# Altium footprint library 18650 battery.PCBLIB: 111 footprints (part 5 of 7)
Each footprint in its own frame and in the unit in brackets; x right, y up, seen from the top. Pads: shape width x height; smd on the part's side, far side on the other; paste and mask are expansions set on the pad; w line width, h text height; cw(c..) or ccw(c..) is an arc to the next point about the centre after c.
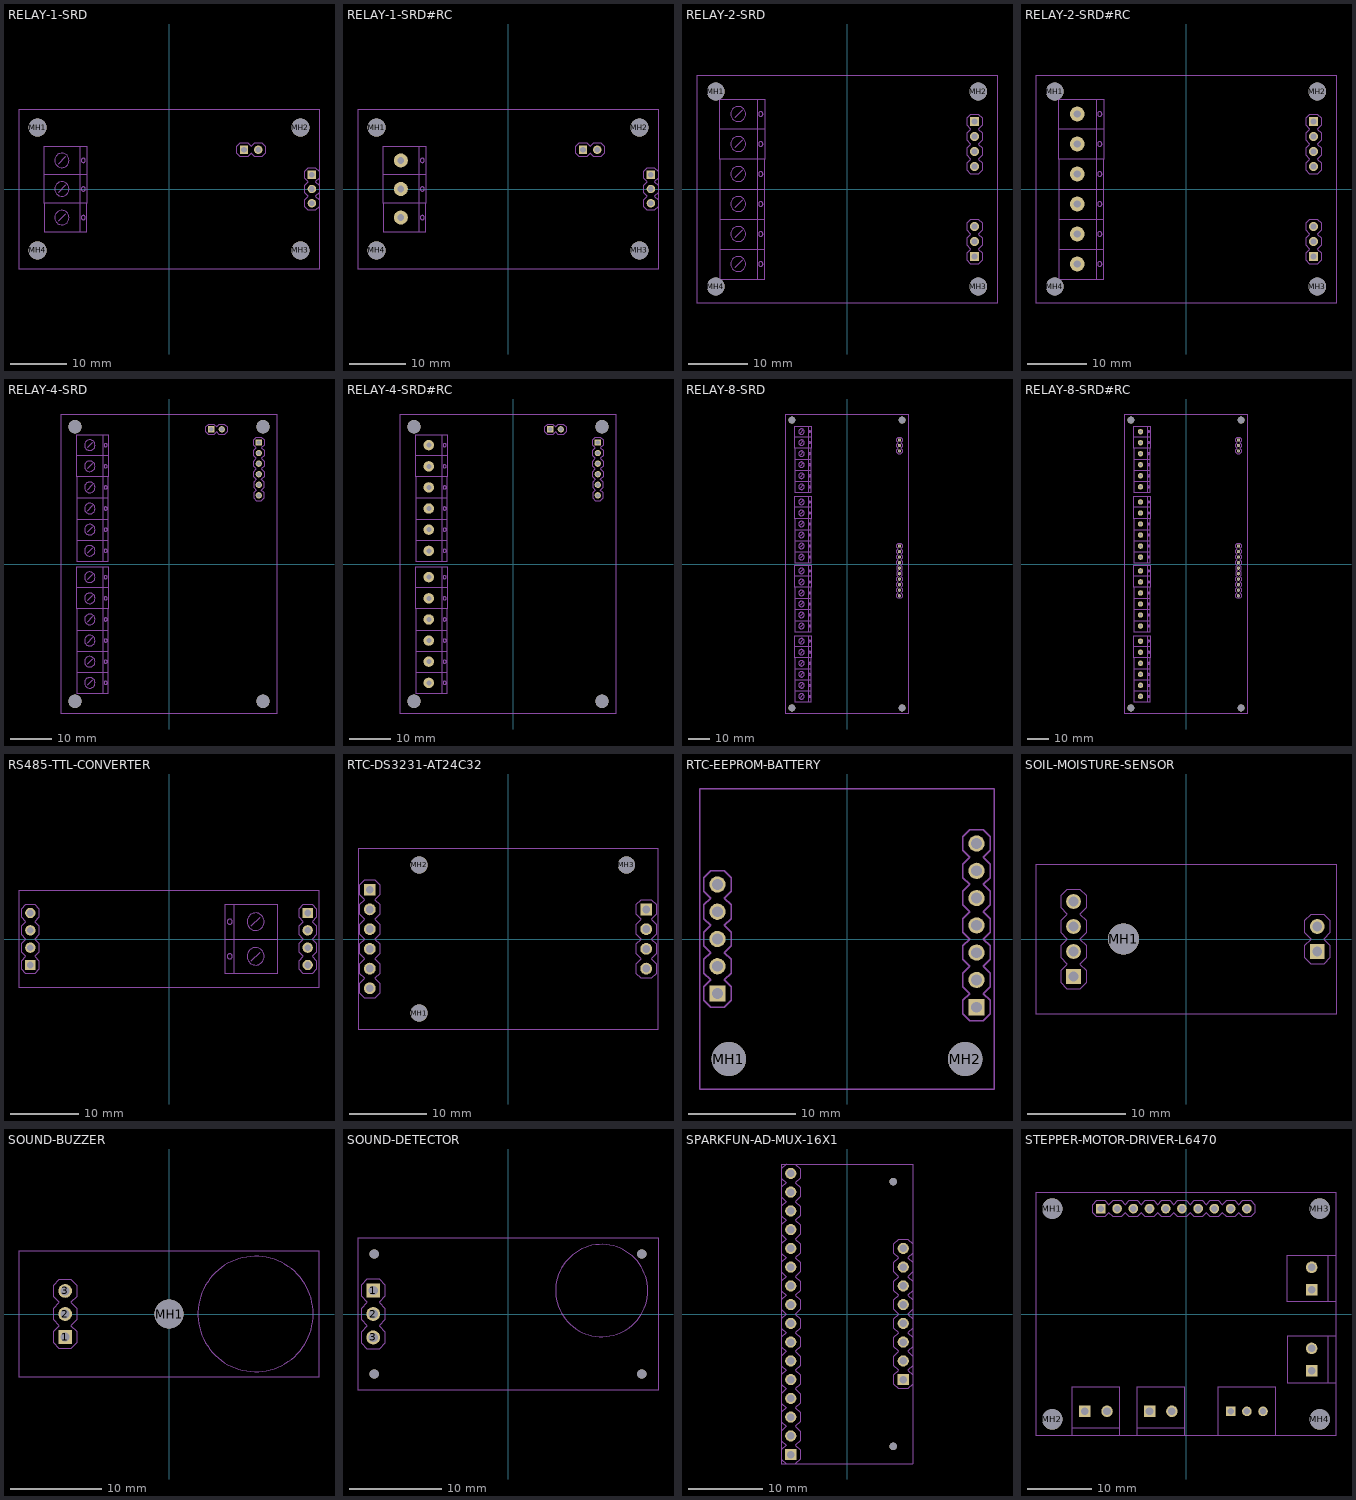
[diagram p4: the footprints below, top view; thin cyan lines are the x and y axes]

## RELAY-1-SRD [mil]
pads (9):
  rect 59.37x59.37 / inner round 54.85 / far side rect 59.37x59.37 hole 39.37: J1.1(1000,100) J2.1(525,275)
  round 59.37 hole 39.37: J1.2(1000,0) J1.3(1000,-100) J2.2(625,275)
  round 125.98 hole 125.98 unplated: MH1(-920,430) MH2(920,430) MH3(920,-430) MH4(-920,-430)
tPlace:
  circle w5: c-600,200 r15
  circle w5: c-600,0 r15
  circle w5: c-600,-200 r15
  circle w5: c-750,0 r50
  circle w5: c-750,200 r50
  circle w5: c-750,-200 r50
  lines w5: -775,-225 -725,-175 ; -775,-25 -725,25 ; -775,175 -725,225 ; 1050,-125 1025,-150 975,-150 950,-125 950,-75 975,-50 950,-25 950,25 975,50 950,75 950,125 975,150 1025,150 1050,125 ; 1050,-75 1025,-50 1050,-25 ; 1050,25 1025,50 1050,75 ; -875,-100 -575,-100 ; -875,-100 -875,100 ; -875,-100 -875,-300 -625,-300 ; -875,100 -875,300 -625,300 ; -875,100 -575,100 ; -625,-300 -575,-300 -575,-100 ; -625,-300 -625,300 ; -625,300 -575,300 -575,100 ; -575,-100 -575,100 ; -1050,-560 1050,-560 1050,560 -1050,560 -1050,-560 ; 475,250 500,225 550,225 575,250 600,225 650,225 675,250 675,300 650,325 600,325 575,300 550,325 500,325 475,300 475,250

## RELAY-1-SRD#RC [mil]
pads (12):
  rect 59.37x59.37 / inner round 54.85 / far side rect 59.37x59.37 hole 39.37: J1.1(1000,100) J2.1(525,275)
  round 59.37 hole 39.37: J1.2(1000,0) J1.3(1000,-100) J2.2(625,275)
  round 125.98 hole 125.98 unplated: MH1(-920,430) MH2(920,430) MH3(920,-430) MH4(-920,-430)
  round 98.43 hole 47.24: P1.1(-750,200) P1.2(-750,0) P1.3(-750,-200)
tPlace:
  circle w5: c-600,200 r15
  circle w5: c-600,0 r15
  circle w5: c-600,-200 r15
  lines w5: 1050,-125 1025,-150 975,-150 950,-125 950,-75 975,-50 950,-25 950,25 975,50 950,75 950,125 975,150 1025,150 1050,125 ; 1050,-75 1025,-50 1050,-25 ; 1050,25 1025,50 1050,75 ; -875,-100 -575,-100 ; -875,-100 -875,100 ; -875,-100 -875,-300 -625,-300 ; -875,100 -875,300 -625,300 ; -875,100 -575,100 ; -625,-300 -575,-300 -575,-100 ; -625,-300 -625,300 ; -625,300 -575,300 -575,100 ; -575,-100 -575,100 ; -1050,-560 1050,-560 1050,560 -1050,560 -1050,-560 ; 475,250 500,225 550,225 575,250 600,225 650,225 675,250 675,300 650,325 600,325 575,300 550,325 500,325 475,300 475,250

## RELAY-2-SRD [mm]
pads (11):
  rect 1.508x1.508 / inner round 1.393 / far side rect 1.508x1.508 hole 1: J1.1(21.59,11.43) J2.1(21.59,-11.43)
  round 1.508 hole 1: J1.2(21.59,8.89) J1.3(21.59,6.35) J1.4(21.59,3.81) J2.2(21.59,-8.89) J2.3(21.59,-6.35)
  round 3 hole 3 unplated: MH1(-22.225,16.51) MH2(22.225,16.51) MH3(22.225,-16.51) MH4(-22.225,-16.51)
tPlace:
  circle w0.127: c-14.605,12.7 r0.381
  circle w0.127: c-14.605,7.62 r0.381
  circle w0.127: c-14.605,2.54 r0.381
  circle w0.127: c-14.605,-2.54 r0.381
  circle w0.127: c-14.605,-7.62 r0.381
  circle w0.127: c-14.605,-12.7 r0.381
  circle w0.127: c-18.415,7.62 r1.27
  circle w0.127: c-18.415,12.7 r1.27
  circle w0.127: c-18.415,2.54 r1.27
  circle w0.127: c-18.415,-2.54 r1.27
  circle w0.127: c-18.415,-7.62 r1.27
  circle w0.127: c-18.415,-12.7 r1.27
  lines w0.127: -19.05,-13.335 -17.78,-12.065 ; -19.05,-8.255 -17.78,-6.985 ; -19.05,-3.175 -17.78,-1.905 ; -19.05,1.905 -17.78,3.175 ; -19.05,6.985 -17.78,8.255 ; -19.05,12.065 -17.78,13.335 ; -21.59,-10.16 -21.59,-5.08 ; -21.59,-10.16 -13.97,-10.16 ; -21.59,-10.16 -21.59,-15.24 -15.24,-15.24 ; -21.59,-5.08 -21.59,0 ; -21.59,-5.08 -13.97,-5.08 ; -21.59,0 -21.59,5.08 ; -21.59,0 -13.97,0 ; -21.59,5.08 -13.97,5.08 ; -21.59,5.08 -21.59,10.16 ; -21.59,10.16 -21.59,15.24 -15.24,15.24 ; -21.59,10.16 -13.97,10.16 ; -15.24,-15.24 -13.97,-15.24 -13.97,-10.16 ; -15.24,-15.24 -15.24,15.24 ; -15.24,15.24 -13.97,15.24 -13.97,10.16 ; -13.97,-10.16 -13.97,-5.08 ; -13.97,-5.08 -13.97,0 ; -13.97,0 -13.97,5.08 ; -13.97,5.08 -13.97,10.16 ; -25.4,-19.304 25.4,-19.304 25.4,19.304 -25.4,19.304 -25.4,-19.304 ; 20.32,-12.065 20.955,-12.7 22.225,-12.7 22.86,-12.065 22.86,-10.795 22.225,-10.16 22.86,-9.525 22.86,-8.255 22.225,-7.62 22.86,-6.985 22.86,-5.715 22.225,-5.08 20.955,-5.08 20.32,-5.715 20.32,-6.985 20.955,-7.62 20.32,-8.255 20.32,-9.525 20.955,-10.16 20.32,-10.795 20.32,-12.065 ; 20.32,3.175 20.955,2.54 22.225,2.54 22.86,3.175 22.86,4.445 22.225,5.08 22.86,5.715 22.86,6.985 22.225,7.62 22.86,8.255 22.86,9.525 22.225,10.16 22.86,10.795 22.86,12.065 22.225,12.7 20.955,12.7 20.32,12.065 20.32,10.795 20.955,10.16 20.32,9.525 20.32,8.255 20.955,7.62 20.32,6.985 20.32,5.715 20.955,5.08 20.32,4.445 20.32,3.175

## RELAY-2-SRD#RC [mm]
pads (17):
  rect 1.508x1.508 / inner round 1.393 / far side rect 1.508x1.508 hole 1: J1.1(21.59,11.43) J2.1(21.59,-11.43)
  round 1.508 hole 1: J1.2(21.59,8.89) J1.3(21.59,6.35) J1.4(21.59,3.81) J2.2(21.59,-8.89) J2.3(21.59,-6.35)
  round 3 hole 3 unplated: MH1(-22.225,16.51) MH2(22.225,16.51) MH3(22.225,-16.51) MH4(-22.225,-16.51)
  round 2.5 hole 1.2: P1.1(-18.415,12.7) P1.2(-18.415,7.62) P1.3(-18.415,2.54) P1.4(-18.415,-2.54) P1.5(-18.415,-7.62) P1.6(-18.415,-12.7)
tPlace:
  circle w0.127: c-14.605,12.7 r0.381
  circle w0.127: c-14.605,7.62 r0.381
  circle w0.127: c-14.605,2.54 r0.381
  circle w0.127: c-14.605,-2.54 r0.381
  circle w0.127: c-14.605,-7.62 r0.381
  circle w0.127: c-14.605,-12.7 r0.381
  lines w0.127: -21.59,-10.16 -21.59,-5.08 ; -21.59,-10.16 -13.97,-10.16 ; -21.59,-10.16 -21.59,-15.24 -15.24,-15.24 ; -21.59,-5.08 -21.59,0 ; -21.59,-5.08 -13.97,-5.08 ; -21.59,0 -21.59,5.08 ; -21.59,0 -13.97,0 ; -21.59,5.08 -13.97,5.08 ; -21.59,5.08 -21.59,10.16 ; -21.59,10.16 -21.59,15.24 -15.24,15.24 ; -21.59,10.16 -13.97,10.16 ; -15.24,-15.24 -13.97,-15.24 -13.97,-10.16 ; -15.24,-15.24 -15.24,15.24 ; -15.24,15.24 -13.97,15.24 -13.97,10.16 ; -13.97,-10.16 -13.97,-5.08 ; -13.97,-5.08 -13.97,0 ; -13.97,0 -13.97,5.08 ; -13.97,5.08 -13.97,10.16 ; -25.4,-19.304 25.4,-19.304 25.4,19.304 -25.4,19.304 -25.4,-19.304 ; 20.32,-12.065 20.955,-12.7 22.225,-12.7 22.86,-12.065 22.86,-10.795 22.225,-10.16 22.86,-9.525 22.86,-8.255 22.225,-7.62 22.86,-6.985 22.86,-5.715 22.225,-5.08 20.955,-5.08 20.32,-5.715 20.32,-6.985 20.955,-7.62 20.32,-8.255 20.32,-9.525 20.955,-10.16 20.32,-10.795 20.32,-12.065 ; 20.32,3.175 20.955,2.54 22.225,2.54 22.86,3.175 22.86,4.445 22.225,5.08 22.86,5.715 22.86,6.985 22.225,7.62 22.86,8.255 22.86,9.525 22.225,10.16 22.86,10.795 22.86,12.065 22.225,12.7 20.955,12.7 20.32,12.065 20.32,10.795 20.955,10.16 20.32,9.525 20.32,8.255 20.955,7.62 20.32,6.985 20.32,5.715 20.955,5.08 20.32,4.445 20.32,3.175

## RELAY-4-SRD [mm]
pads (12):
  rect 1.508x1.508 / inner round 1.393 / far side rect 1.508x1.508 hole 1: J1.1(21.59,29.21) J2.1(10.16,32.385)
  round 1.508 hole 1: J1.2(21.59,26.67) J1.3(21.59,24.13) J1.4(21.59,21.59) J1.5(21.59,19.05) J1.6(21.59,16.51) J2.2(12.7,32.385)
  round 3.2 hole 3.2 unplated: MH1(-22.606,33.02) MH2(22.606,33.02) MH3(22.606,-33.02) MH4(-22.606,-33.02)
tPlace:
  circle w0.127: c-15.24,28.575 r0.381
  circle w0.127: c-15.24,23.495 r0.381
  circle w0.127: c-15.24,18.415 r0.381
  circle w0.127: c-15.24,13.335 r0.381
  circle w0.127: c-15.24,8.255 r0.381
  circle w0.127: c-15.24,3.175 r0.381
  circle w0.127: c-19.05,23.495 r1.27
  circle w0.127: c-19.05,28.575 r1.27
  circle w0.127: c-19.05,18.415 r1.27
  circle w0.127: c-19.05,13.335 r1.27
  circle w0.127: c-19.05,8.255 r1.27
  circle w0.127: c-19.05,3.175 r1.27
  circle w0.127: c-15.24,-3.175 r0.381
  circle w0.127: c-15.24,-8.255 r0.381
  circle w0.127: c-15.24,-13.335 r0.381
  circle w0.127: c-15.24,-18.415 r0.381
  circle w0.127: c-15.24,-23.495 r0.381
  circle w0.127: c-15.24,-28.575 r0.381
  circle w0.127: c-19.05,-8.255 r1.27
  circle w0.127: c-19.05,-3.175 r1.27
  circle w0.127: c-19.05,-13.335 r1.27
  circle w0.127: c-19.05,-18.415 r1.27
  circle w0.127: c-19.05,-23.495 r1.27
  circle w0.127: c-19.05,-28.575 r1.27
  lines w0.127: -19.685,-29.21 -18.415,-27.94 ; -19.685,-24.13 -18.415,-22.86 ; -19.685,-19.05 -18.415,-17.78 ; -19.685,-13.97 -18.415,-12.7 ; -19.685,-8.89 -18.415,-7.62 ; -19.685,-3.81 -18.415,-2.54 ; -19.685,2.54 -18.415,3.81 ; -19.685,7.62 -18.415,8.89 ; -19.685,12.7 -18.415,13.97 ; -19.685,17.78 -18.415,19.05 ; -19.685,22.86 -18.415,24.13 ; -19.685,27.94 -18.415,29.21 ; -22.225,-26.035 -22.225,-20.955 ; -22.225,-26.035 -14.605,-26.035 ; -22.225,-26.035 -22.225,-31.115 -15.875,-31.115 ; -22.225,-20.955 -22.225,-15.875 ; -22.225,-20.955 -14.605,-20.955 ; -22.225,-15.875 -22.225,-10.795 ; -22.225,-15.875 -14.605,-15.875 ; -22.225,-10.795 -14.605,-10.795 ; -22.225,-10.795 -22.225,-5.715 ; -22.225,-5.715 -22.225,-0.635 -15.875,-0.635 ; -22.225,-5.715 -14.605,-5.715 ; -22.225,5.715 -22.225,10.795 ; -22.225,5.715 -14.605,5.715 ; -22.225,5.715 -22.225,0.635 -15.875,0.635 ; -22.225,10.795 -22.225,15.875 ; -22.225,10.795 -14.605,10.795 ; -22.225,15.875 -22.225,20.955 ; -22.225,15.875 -14.605,15.875 ; -22.225,20.955 -14.605,20.955 ; -22.225,20.955 -22.225,26.035 ; -22.225,26.035 -22.225,31.115 -15.875,31.115 ; -22.225,26.035 -14.605,26.035 ; -15.875,-31.115 -14.605,-31.115 -14.605,-26.035 ; -15.875,-31.115 -15.875,-0.635 ; -15.875,-0.635 -14.605,-0.635 -14.605,-5.715 ; -15.875,0.635 -14.605,0.635 -14.605,5.715 ; -15.875,0.635 -15.875,31.115 ; -15.875,31.115 -14.605,31.115 -14.605,26.035 ; -14.605,-26.035 -14.605,-20.955 ; -14.605,-20.955 -14.605,-15.875 ; -14.605,-15.875 -14.605,-10.795 ; -14.605,-10.795 -14.605,-5.715 ; -14.605,5.715 -14.605,10.795 ; -14.605,10.795 -14.605,15.875 ; -14.605,15.875 -14.605,20.955 ; -14.605,20.955 -14.605,26.035 ; -25.908,-36.068 25.908,-36.068 25.908,36.068 -25.908,36.068 -25.908,-36.068 ; 8.89,31.75 9.525,31.115 10.795,31.115 11.43,31.75 12.065,31.115 13.335,31.115 13.97,31.75 13.97,33.02 13.335,33.655 12.065,33.655 11.43,33.02 10.795,33.655 9.525,33.655 8.89,33.02 8.89,31.75 ; 20.32,15.875 20.32,17.145 20.955,17.78 20.32,18.415 20.32,19.685 20.955,20.32 20.32,20.955 20.32,22.225 20.955,22.86 20.32,23.495 20.32,24.765 20.955,25.4 20.32,26.035 20.32,27.305 20.955,27.94 20.32,28.575 20.32,29.845 20.955,30.48 22.225,30.48 22.86,29.845 22.86,28.575 22.225,27.94 22.86,27.305 22.86,26.035 22.225,25.4 22.86,24.765 22.86,23.495 22.225,22.86 22.86,22.225 22.86,20.955 22.225,20.32 22.86,19.685 22.86,18.415 22.225,17.78 22.86,17.145 22.86,15.875 22.225,15.24 20.955,15.24 20.32,15.875

## RELAY-4-SRD#RC [mm]
pads (24):
  rect 1.508x1.508 / inner round 1.393 / far side rect 1.508x1.508 hole 1: J1.1(20.32,29.21) J2.1(8.89,32.385)
  round 1.508 hole 1: J1.2(20.32,26.67) J1.3(20.32,24.13) J1.4(20.32,21.59) J1.5(20.32,19.05) J1.6(20.32,16.51) J2.2(11.43,32.385)
  round 3.2 hole 3.2 unplated: MH1(-23.876,33.02) MH2(21.336,33.02) MH3(21.336,-33.02) MH4(-23.876,-33.02)
  round 2.5 hole 1.2: P1.1(-20.32,28.575) P1.2(-20.32,23.495) P1.3(-20.32,18.415) P1.4(-20.32,13.335) P1.5(-20.32,8.255) P1.6(-20.32,3.175) P2.1(-20.32,-3.175) P2.2(-20.32,-8.255) P2.3(-20.32,-13.335) P2.4(-20.32,-18.415) P2.5(-20.32,-23.495) P2.6(-20.32,-28.575)
tPlace:
  circle w0.127: c-16.51,28.575 r0.381
  circle w0.127: c-16.51,23.495 r0.381
  circle w0.127: c-16.51,18.415 r0.381
  circle w0.127: c-16.51,13.335 r0.381
  circle w0.127: c-16.51,8.255 r0.381
  circle w0.127: c-16.51,3.175 r0.381
  circle w0.127: c-16.51,-3.175 r0.381
  circle w0.127: c-16.51,-8.255 r0.381
  circle w0.127: c-16.51,-13.335 r0.381
  circle w0.127: c-16.51,-18.415 r0.381
  circle w0.127: c-16.51,-23.495 r0.381
  circle w0.127: c-16.51,-28.575 r0.381
  lines w0.127: -23.495,-26.035 -23.495,-20.955 ; -23.495,-26.035 -15.875,-26.035 ; -23.495,-26.035 -23.495,-31.115 -17.145,-31.115 ; -23.495,-20.955 -23.495,-15.875 ; -23.495,-20.955 -15.875,-20.955 ; -23.495,-15.875 -23.495,-10.795 ; -23.495,-15.875 -15.875,-15.875 ; -23.495,-10.795 -15.875,-10.795 ; -23.495,-10.795 -23.495,-5.715 ; -23.495,-5.715 -23.495,-0.635 -17.145,-0.635 ; -23.495,-5.715 -15.875,-5.715 ; -23.495,5.715 -23.495,10.795 ; -23.495,5.715 -15.875,5.715 ; -23.495,5.715 -23.495,0.635 -17.145,0.635 ; -23.495,10.795 -23.495,15.875 ; -23.495,10.795 -15.875,10.795 ; -23.495,15.875 -23.495,20.955 ; -23.495,15.875 -15.875,15.875 ; -23.495,20.955 -15.875,20.955 ; -23.495,20.955 -23.495,26.035 ; -23.495,26.035 -23.495,31.115 -17.145,31.115 ; -23.495,26.035 -15.875,26.035 ; -17.145,-31.115 -15.875,-31.115 -15.875,-26.035 ; -17.145,-31.115 -17.145,-0.635 ; -17.145,-0.635 -15.875,-0.635 -15.875,-5.715 ; -17.145,0.635 -15.875,0.635 -15.875,5.715 ; -17.145,0.635 -17.145,31.115 ; -17.145,31.115 -15.875,31.115 -15.875,26.035 ; -15.875,-26.035 -15.875,-20.955 ; -15.875,-20.955 -15.875,-15.875 ; -15.875,-15.875 -15.875,-10.795 ; -15.875,-10.795 -15.875,-5.715 ; -15.875,5.715 -15.875,10.795 ; -15.875,10.795 -15.875,15.875 ; -15.875,15.875 -15.875,20.955 ; -15.875,20.955 -15.875,26.035 ; -27.178,-36.068 24.638,-36.068 24.638,36.068 -27.178,36.068 -27.178,-36.068 ; 7.62,31.75 8.255,31.115 9.525,31.115 10.16,31.75 10.795,31.115 12.065,31.115 12.7,31.75 12.7,33.02 12.065,33.655 10.795,33.655 10.16,33.02 9.525,33.655 8.255,33.655 7.62,33.02 7.62,31.75 ; 19.05,15.875 19.05,17.145 19.685,17.78 19.05,18.415 19.05,19.685 19.685,20.32 19.05,20.955 19.05,22.225 19.685,22.86 19.05,23.495 19.05,24.765 19.685,25.4 19.05,26.035 19.05,27.305 19.685,27.94 19.05,28.575 19.05,29.845 19.685,30.48 20.955,30.48 21.59,29.845 21.59,28.575 20.955,27.94 21.59,27.305 21.59,26.035 20.955,25.4 21.59,24.765 21.59,23.495 20.955,22.86 21.59,22.225 21.59,20.955 20.955,20.32 21.59,19.685 21.59,18.415 20.955,17.78 21.59,17.145 21.59,15.875 20.955,15.24 19.685,15.24 19.05,15.875

## RELAY-8-SRD [mm]
pads (17):
  rect 1.508x1.508 / inner round 1.393 / far side rect 1.508x1.508 hole 1: J1.1(24.13,8.255) J2.1(24.13,57.15)
  round 1.508 hole 1: J1.2(24.13,5.715) J1.3(24.13,3.175) J1.4(24.13,0.635) J1.5(24.13,-1.905) J1.6(24.13,-4.445) J1.7(24.13,-6.985) J1.8(24.13,-9.525) J1.9(24.13,-12.065) J1.10(24.13,-14.605) J2.2(24.13,54.61) J2.3(24.13,52.07)
  round 3.2 hole 3.2 unplated: MH1(-25.4,66.294) MH2(25.4,66.294) MH3(25.4,-66.294) MH4(-25.4,-66.294)
tPlace:
  drawing of 246 lines, arcs and shapes, not listed

## RELAY-8-SRD#RC [mm]
pads (41):
  rect 1.508x1.508 / inner round 1.393 / far side rect 1.508x1.508 hole 1: J1.1(24.13,8.255) J2.1(24.13,57.15)
  round 1.508 hole 1: J1.2(24.13,5.715) J1.3(24.13,3.175) J1.4(24.13,0.635) J1.5(24.13,-1.905) J1.6(24.13,-4.445) J1.7(24.13,-6.985) J1.8(24.13,-9.525) J1.9(24.13,-12.065) J1.10(24.13,-14.605) J2.2(24.13,54.61) J2.3(24.13,52.07)
  round 3.2 hole 3.2 unplated: MH1(-25.4,66.294) MH2(25.4,66.294) MH3(25.4,-66.294) MH4(-25.4,-66.294)
  round 2.5 hole 1.2: P1.1(-20.955,60.96) P1.2(-20.955,55.88) P1.3(-20.955,50.8) P1.4(-20.955,45.72) P1.5(-20.955,40.64) P1.6(-20.955,35.56) P2.1(-20.955,28.575) P2.2(-20.955,23.495) P2.3(-20.955,18.415) P2.4(-20.955,13.335) P2.5(-20.955,8.255) P2.6(-20.955,3.175) P3.1(-20.955,-3.175) P3.2(-20.955,-8.255) P3.3(-20.955,-13.335) P3.4(-20.955,-18.415) P3.5(-20.955,-23.495) P3.6(-20.955,-28.575) P4.1(-20.955,-35.56) P4.2(-20.955,-40.64) P4.3(-20.955,-45.72) P4.4(-20.955,-50.8) P4.5(-20.955,-55.88) P4.6(-20.955,-60.96)
tPlace:
  drawing of 198 lines, arcs and shapes, not listed

## RS485-TTL-CONVERTER [mm]
pads (8):
  rect 1.508x1.508 / inner round 1.393 / far side rect 1.508x1.508 hole 1: J1.1(-20.32,-3.81) J2.1(20.32,3.81)
  round 1.508 hole 1: J1.2(-20.32,-1.27) J1.3(-20.32,1.27) J1.4(-20.32,3.81) J2.2(20.32,1.27) J2.3(20.32,-1.27) J2.4(20.32,-3.81)
tPlace:
  circle w0.127: c12.7,-2.54 r1.27
  circle w0.127: c12.7,2.54 r1.27
  circle w0.127: c8.89,-2.54 r0.381
  circle w0.127: c8.89,2.54 r0.381
  lines w0.127: 12.065,-3.175 13.335,-1.905 ; 12.065,1.905 13.335,3.175 ; 8.255,0 8.255,-5.08 9.525,-5.08 ; 8.255,0 8.255,5.08 9.525,5.08 ; 8.255,0 15.875,0 ; 9.525,-5.08 15.875,-5.08 15.875,0 ; 9.525,-5.08 9.525,5.08 ; 9.525,5.08 15.875,5.08 15.875,0 ; -21.971,-7.112 21.971,-7.112 21.971,7.112 -21.971,7.112 -21.971,-7.112 ; -21.59,-4.445 -20.955,-5.08 -19.685,-5.08 -19.05,-4.445 -19.05,-3.175 -19.685,-2.54 -19.05,-1.905 -19.05,-0.635 -19.685,0 -19.05,0.635 -19.05,1.905 -19.685,2.54 -19.05,3.175 -19.05,4.445 -19.685,5.08 -20.955,5.08 -21.59,4.445 -21.59,3.175 -20.955,2.54 -21.59,1.905 -21.59,0.635 -20.955,0 -21.59,-0.635 -21.59,-1.905 -20.955,-2.54 -21.59,-3.175 -21.59,-4.445 ; 19.05,-4.445 19.685,-5.08 20.955,-5.08 21.59,-4.445 21.59,-3.175 20.955,-2.54 21.59,-1.905 21.59,-0.635 20.955,0 21.59,0.635 21.59,1.905 20.955,2.54 21.59,3.175 21.59,4.445 20.955,5.08 19.685,5.08 19.05,4.445 19.05,3.175 19.685,2.54 19.05,1.905 19.05,0.635 19.685,0 19.05,-0.635 19.05,-1.905 19.685,-2.54 19.05,-3.175 19.05,-4.445

## RTC-DS3231-AT24C32 [mm]
pads (13):
  rect 1.508x1.508 / inner round 1.393 / far side rect 1.508x1.508 hole 1: J1.1(-17.78,6.35) J2.1(17.78,3.81)
  round 1.508 hole 1: J1.2(-17.78,3.81) J1.3(-17.78,1.27) J1.4(-17.78,-1.27) J1.5(-17.78,-3.81) J1.6(-17.78,-6.35) J2.2(17.78,1.27) J2.3(17.78,-1.27) J2.4(17.78,-3.81)
  round 2.2 hole 2.2 unplated: MH1(-11.43,-9.525) MH2(-11.43,9.525) MH3(15.24,9.525)
tPlace:
  lines w0.127: -19.304,-11.684 19.304,-11.684 19.304,11.684 -19.304,11.684 -19.304,-11.684 ; -19.05,-6.985 -19.05,-5.715 -18.415,-5.08 -19.05,-4.445 -19.05,-3.175 -18.415,-2.54 -19.05,-1.905 -19.05,-0.635 -18.415,0 -19.05,0.635 -19.05,1.905 -18.415,2.54 -19.05,3.175 -19.05,4.445 -18.415,5.08 -19.05,5.715 -19.05,6.985 -18.415,7.62 -17.145,7.62 -16.51,6.985 -16.51,5.715 -17.145,5.08 -16.51,4.445 -16.51,3.175 -17.145,2.54 -16.51,1.905 -16.51,0.635 -17.145,0 -16.51,-0.635 -16.51,-1.905 -17.145,-2.54 -16.51,-3.175 -16.51,-4.445 -17.145,-5.08 -16.51,-5.715 -16.51,-6.985 -17.145,-7.62 -18.415,-7.62 -19.05,-6.985 ; 16.51,-4.445 17.145,-5.08 18.415,-5.08 19.05,-4.445 19.05,-3.175 18.415,-2.54 19.05,-1.905 19.05,-0.635 18.415,0 19.05,0.635 19.05,1.905 18.415,2.54 19.05,3.175 19.05,4.445 18.415,5.08 17.145,5.08 16.51,4.445 16.51,3.175 17.145,2.54 16.51,1.905 16.51,0.635 17.145,0 16.51,-0.635 16.51,-1.905 17.145,-2.54 16.51,-3.175 16.51,-4.445
  text "32K" at -15.875,6.35 h1.97
  text "SQW" at -15.875,3.81 h1.97
  text "SCL" at -15.875,1.27 h1.97
  text "SDA" at -15.875,-1.27 h1.97
  text "VCC" at -15.875,-3.81 h1.97
  text "GND" at -15.875,-6.35 h1.97
  text "SCL" at 15.875,3.81 h1.97
  text "SDA" at 15.875,1.27 h1.97
  text "VCC" at 15.875,-1.27 h1.97
  text "GND" at 15.875,-3.81 h1.97

## RTC-EEPROM-BATTERY [mm]
pads (14):
  rect 1.508x1.508 / inner round 1.393 / far side rect 1.508x1.508 hole 1: J1.1(-12.065,-5.08) J2.1(12.065,-6.35)
  round 1.508 hole 1: J1.2(-12.065,-2.54) J1.3(-12.065,0) J1.4(-12.065,2.54) J1.5(-12.065,5.08) J2.2(12.065,-3.81) J2.3(12.065,-1.27) J2.4(12.065,1.27) J2.5(12.065,3.81) J2.6(12.065,6.35) J2.7(12.065,8.89)
  round 3.2 hole 3.2 unplated: MH1(-11,-11.176) MH2(11,-11.176)
tPlace:
  lines w0.127: -13.716,-13.97 13.716,-13.97 13.716,13.97 -13.716,13.97 -13.716,-13.97 ; -13.335,-5.715 -12.7,-6.35 -11.43,-6.35 -10.795,-5.715 -10.795,-4.445 -11.43,-3.81 -10.795,-3.175 -10.795,-1.905 -11.43,-1.27 -10.795,-0.635 -10.795,0.635 -11.43,1.27 -10.795,1.905 -10.795,3.175 -11.43,3.81 -10.795,4.445 -10.795,5.715 -11.43,6.35 -12.7,6.35 -13.335,5.715 -13.335,4.445 -12.7,3.81 -13.335,3.175 -13.335,1.905 -12.7,1.27 -13.335,0.635 -13.335,-0.635 -12.7,-1.27 -13.335,-1.905 -13.335,-3.175 -12.7,-3.81 -13.335,-4.445 -13.335,-5.715 ; 10.795,-6.985 11.43,-7.62 12.7,-7.62 13.335,-6.985 13.335,-5.715 12.7,-5.08 13.335,-4.445 13.335,-3.175 12.7,-2.54 13.335,-1.905 13.335,-0.635 12.7,0 13.335,0.635 13.335,1.905 12.7,2.54 13.335,3.175 13.335,4.445 12.7,5.08 13.335,5.715 13.335,6.985 12.7,7.62 13.335,8.255 13.335,9.525 12.7,10.16 11.43,10.16 10.795,9.525 10.795,8.255 11.43,7.62 10.795,6.985 10.795,5.715 11.43,5.08 10.795,4.445 10.795,3.175 11.43,2.54 10.795,1.905 10.795,0.635 11.43,0 10.795,-0.635 10.795,-1.905 11.43,-2.54 10.795,-3.175 10.795,-4.445 11.43,-5.08 10.795,-5.715 10.795,-6.985

## SOIL-MOISTURE-SENSOR [mm]
pads (7):
  rect 1.508x1.508 / inner round 1.393 / far side rect 1.508x1.508 hole 1: J1.1(-11.43,-3.81) J2.1(13.335,-1.27)
  round 1.508 hole 1: J1.2(-11.43,-1.27) J1.3(-11.43,1.27) J1.4(-11.43,3.81) J2.2(13.335,1.27)
  round 3.2 hole 3.2 unplated: MH1(-6.35,0)
tPlace:
  lines w0.127: -15.24,-7.62 15.24,-7.62 15.24,7.62 -15.24,7.62 -15.24,-7.62 ; -12.7,-4.445 -12.065,-5.08 -10.795,-5.08 -10.16,-4.445 -10.16,-3.175 -10.795,-2.54 -10.16,-1.905 -10.16,-0.635 -10.795,0 -10.16,0.635 -10.16,1.905 -10.795,2.54 -10.16,3.175 -10.16,4.445 -10.795,5.08 -12.065,5.08 -12.7,4.445 -12.7,3.175 -12.065,2.54 -12.7,1.905 -12.7,0.635 -12.065,0 -12.7,-0.635 -12.7,-1.905 -12.065,-2.54 -12.7,-3.175 -12.7,-4.445 ; 12.065,-1.905 12.7,-2.54 13.97,-2.54 14.605,-1.905 14.605,-0.635 13.97,0 14.605,0.635 14.605,1.905 13.97,2.54 12.7,2.54 12.065,1.905 12.065,0.635 12.7,0 12.065,-0.635 12.065,-1.905

## SOUND-BUZZER [mm]
pads (4):
  rect 1.508x1.508 / inner round 1.393 / far side rect 1.508x1.508 hole 1: 1(-11.43,-2.54)
  round 1.508 hole 1: 2(-11.43,0) 3(-11.43,2.54)
  round 3.2 hole 3.2 unplated: MH1(0,0)
tPlace:
  circle w0.127: c9.525,0 r6.35
  lines w0.127: -16.51,-6.985 16.51,-6.985 16.51,6.985 -16.51,6.985 -16.51,-6.985 ; -12.7,-3.175 -12.065,-3.81 -10.795,-3.81 -10.16,-3.175 -10.16,-1.905 -10.795,-1.27 -10.16,-0.635 -10.16,0.635 -10.795,1.27 -10.16,1.905 -10.16,3.175 -10.795,3.81 -12.065,3.81 -12.7,3.175 -12.7,1.905 -12.065,1.27 -12.7,0.635 -12.7,-0.635 -12.065,-1.27 -12.7,-1.905 -12.7,-3.175
  text "BUZZER" at 9.525,0 h1.57

## SOUND-DETECTOR [mm]
pads (7):
  rect 1.508x1.508 / inner round 1.393 / far side rect 1.508x1.508 hole 1: 1(-14.605,2.54)
  round 1.508 hole 1: 2(-14.605,0) 3(-14.605,-2.54)
  round 1 hole 1 unplated: MH1(-14.5,6.5) MH2(-14.5,-6.5) MH3(14.5,-6.5) MH4(14.5,6.5)
tPlace:
  circle w0.127: c10.16,2.54 r5
  lines w0.127: -16.256,-8.255 16.256,-8.255 16.256,8.255 -16.256,8.255 -16.256,-8.255 ; -15.875,-3.175 -15.24,-3.81 -13.97,-3.81 -13.335,-3.175 -13.335,-1.905 -13.97,-1.27 -13.335,-0.635 -13.335,0.635 -13.97,1.27 -13.335,1.905 -13.335,3.175 -13.97,3.81 -15.24,3.81 -15.875,3.175 -15.875,1.905 -15.24,1.27 -15.875,0.635 -15.875,-0.635 -15.24,-1.27 -15.875,-1.905 -15.875,-3.175
  text "MIC" at 10.16,2.54 h2.76

## SPARKFUN-AD-MUX-16X1 [mm]
pads (26):
  rect 1.508x1.508 / inner round 1.393 / far side rect 1.508x1.508 hole 1: J1.1(-7.62,-19.05) J2.1(7.62,-8.89)
  round 1.508 hole 1: J1.2(-7.62,-16.51) J1.3(-7.62,-13.97) J1.4(-7.62,-11.43) J1.5(-7.62,-8.89) J1.6(-7.62,-6.35) J1.7(-7.62,-3.81) J1.8(-7.62,-1.27) J1.9(-7.62,1.27) J1.10(-7.62,3.81) J1.11(-7.62,6.35) J1.12(-7.62,8.89) J1.13(-7.62,11.43) J1.14(-7.62,13.97) J1.15(-7.62,16.51) J1.16(-7.62,19.05) J2.2(7.62,-6.35) J2.3(7.62,-3.81) J2.4(7.62,-1.27) J2.5(7.62,1.27) J2.6(7.62,3.81) J2.7(7.62,6.35) J2.8(7.62,8.89)
  round 1 hole 1 unplated: MH1(6.245,-17.93) MH2(6.245,17.93)
tPlace:
  drawing of 178 lines, arcs and shapes, not listed
  text "C0" at -5.715,-19.05 h1.97
  text "C1" at -5.715,-16.51 h1.97
  text "C2" at -5.715,-13.97 h1.97
  text "C3" at -5.715,-11.43 h1.97
  text "C4" at -5.715,-8.89 h1.97
  text "C5" at -5.715,-6.35 h1.97
  text "C6" at -5.715,-3.81 h1.97
  text "C7" at -5.715,-1.27 h1.97
  text "C8" at -5.715,1.27 h1.97
  text "C9" at -5.715,3.81 h1.97
  text "C10" at -5.715,6.35 h1.97
  text "C11" at -5.715,8.89 h1.97
  text "C12" at -5.715,11.43 h1.97
  text "C13" at -5.715,13.97 h1.97
  text "C14" at -5.715,16.51 h1.97
  text "C15" at -5.715,19.05 h1.97
  text "GND" at 5.715,-8.89 h1.97
  text "VCC" at 5.715,-6.35 h1.97
  text "EN" at 5.715,-3.81 h1.97
  text "S0" at 5.715,-1.27 h1.97
  text "S1" at 5.715,1.27 h1.97
  text "S2" at 5.715,3.81 h1.97
  text "S3" at 5.715,6.35 h1.97
  text "SIG" at 5.715,8.89 h1.97

## STEPPER-MOTOR-DRIVER-L6470 [mm]
pads (25):
  rect 1.508x1.508 / inner round 1.393 / far side rect 1.508x1.508 hole 1: JP1.1(-13.335,16.51) R4.1(6.985,-15.24)
  round 1.508 hole 1: JP1.2(-10.795,16.51) JP1.3(-8.255,16.51) JP1.4(-5.715,16.51) JP1.5(-3.175,16.51) JP1.6(-0.635,16.51) JP1.7(1.905,16.51) JP1.8(4.445,16.51) JP1.9(6.985,16.51) JP1.10(9.525,16.51) R4.2(9.525,-15.24) R4.3(12.065,-15.24)
  rect 1.8x1.8 / inner round 1.663 / far side rect 1.8x1.8 hole 1.2: JP5.1(-15.875,-15.24) JP6.1(19.685,3.81) JP7.1(19.685,-8.89) JP8.1(-5.715,-15.24)
  round 1.8 hole 1.2: JP5.2(-12.37,-15.24) JP6.2(19.685,7.315) JP7.2(19.685,-5.385) JP8.2(-2.21,-15.24)
  round 3.2 hole 3.2 unplated: MH1(-20.955,16.51) MH2(-20.955,-16.51) MH3(20.955,16.51) MH4(20.955,-16.51)
tPlace:
  lines w0.127: -17.78,-19.05 -10.465,-19.05 ; -17.78,-19.05 -23.495,-19.05 -23.495,19.05 23.495,19.05 23.495,9.22 ; -17.78,-19.05 -17.78,-17.78 ; -17.78,-17.78 -17.78,-11.43 -10.465,-11.43 -10.465,-17.78 ; -17.78,-17.78 -10.465,-17.78 ; -10.465,-19.05 -7.62,-19.05 ; -10.465,-19.05 -10.465,-17.78 ; -7.62,-19.05 -0.305,-19.05 ; -7.62,-19.05 -7.62,-17.78 ; -7.62,-17.78 -7.62,-11.43 -0.305,-11.43 -0.305,-17.78 ; -7.62,-17.78 -0.305,-17.78 ; -0.305,-19.05 5.08,-19.05 ; -0.305,-19.05 -0.305,-17.78 ; 5.08,-19.05 13.97,-19.05 ; 5.08,-19.05 5.08,-11.43 13.97,-11.43 13.97,-19.05 ; 13.97,-19.05 23.495,-19.05 23.495,-10.795 ; 22.225,-10.795 15.875,-10.795 15.875,-3.48 22.225,-3.48 ; 22.225,-10.795 23.495,-10.795 ; 22.225,-10.795 22.225,-3.48 ; 22.225,-3.48 23.495,-3.48 ; 22.225,1.905 23.495,1.905 ; 22.225,1.905 15.875,1.905 15.875,9.22 22.225,9.22 ; 22.225,1.905 22.225,9.22 ; 22.225,9.22 23.495,9.22 ; 23.495,-10.795 23.495,-3.48 ; 23.495,-3.48 23.495,1.905 ; 23.495,1.905 23.495,9.22 ; -14.605,15.875 -13.97,15.24 -12.7,15.24 -12.065,15.875 -11.43,15.24 -10.16,15.24 -9.525,15.875 -8.89,15.24 -7.62,15.24 -6.985,15.875 -6.35,15.24 -5.08,15.24 -4.445,15.875 -3.81,15.24 -2.54,15.24 -1.905,15.875 -1.27,15.24 0,15.24 0.635,15.875 1.27,15.24 2.54,15.24 3.175,15.875 3.81,15.24 5.08,15.24 5.715,15.875 6.35,15.24 7.62,15.24 8.255,15.875 8.89,15.24 10.16,15.24 10.795,15.875 10.795,17.145 10.16,17.78 8.89,17.78 8.255,17.145 7.62,17.78 6.35,17.78 5.715,17.145 5.08,17.78 3.81,17.78 3.175,17.145 2.54,17.78 1.27,17.78 0.635,17.145 0,17.78 -1.27,17.78 -1.905,17.145 -2.54,17.78 -3.81,17.78 -4.445,17.145 -5.08,17.78 -6.35,17.78 -6.985,17.145 -7.62,17.78 -8.89,17.78 -9.525,17.145 -10.16,17.78 -11.43,17.78 -12.065,17.145 -12.7,17.78 -13.97,17.78 -14.605,17.145 -14.605,15.875
  text "GND" at -13.335,14.605 h1.97
  text "STBY" at -10.795,14.605 h1.97
  text "STCK" at -8.255,14.605 h1.97
  text "FLGN" at -5.715,14.605 h1.97
  text "CSN" at -3.175,14.605 h1.97
  text "BSYN" at -0.635,14.605 h1.97
  text "SDI" at 1.905,14.605 h1.97
  text "CK" at 4.445,14.605 h1.97
  text "SDO" at 6.985,14.605 h1.97
  text "5V" at 9.525,14.605 h1.97
  text "V+" at -15.875,-10.16 h1.97
  text "GND" at -12.37,-10.465 h1.97
  text "SW" at -5.715,-10.16 h1.97
  text "GND" at -2.21,-10.16 h1.97
  text "O1B" at 14.605,7.315 h1.97
  text "O1A" at 14.605,3.81 h1.97
  text "O2B" at 14.605,-5.385 h1.97
  text "O2A" at 14.605,-8.89 h1.97
  text "V_SET" at 5.08,-9.525 h1.97